# Altium schematic symbol library dsPIC33FJ64MC804-I_ML.SchLib: 1 symbol
Pins are listed as number, name and electrical type; pins without a type are passive.

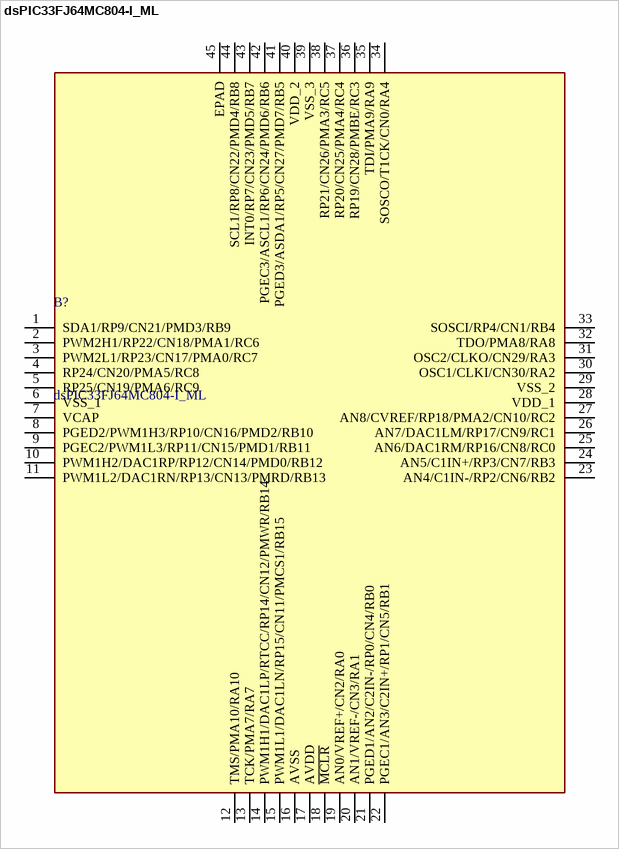
[diagram p0: symbol dsPIC33FJ64MC804-I_ML]

## dsPIC33FJ64MC804-I_ML
designator B?
MCU&DSP 64K Flash 16K RAM DMA QFN44; Manufacturer_Name: Microchip; Manufacturer_Part_Number: dsPIC33FJ64MC804-I/ML; Geometry.Height: 1mm; Mouser Part Number: 579-DSPIC364MC804IML; Mouser Price/Stock: https://www.mouser.co.uk/ProductDetail/Microchip-Technology/DSPIC33FJ64MC804-I-ML?qs=nMCt4TBfEwoppiYgos1DJw%3D%3D; Datasheet Link: http://ww1.microchip.com/downloads/en/DeviceDoc/70291G.pdf
footprint QFN65P800X800X100-45N-D
pins: 1 SDA1/RP9/CN21/PMD3/RB9, 2 PWM2H1/RP22/CN18/PMA1/RC6, 3 PWM2L1/RP23/CN17/PMA0/RC7, 4 RP24/CN20/PMA5/RC8, 5 RP25/CN19/PMA6/RC9, 6 VSS_1, 7 VCAP, 8 PGED2/PWM1H3/RP10/CN16/PMD2/RB10, 9 PGEC2/PWM1L3/RP11/CN15/PMD1/RB11, 10 PWM1H2/DAC1RP/RP12/CN14/PMD0/RB12, 11 PWM1L2/DAC1RN/RP13/CN13/PMRD/RB13, 12 TMS/PMA10/RA10, 13 TCK/PMA7/RA7, 14 PWM1H1/DAC1LP/RTCC/RP14/CN12/PMWR/RB14, 15 PWM1L1/DAC1LN/RP15/CN11/PMCS1/RB15, 16 AVSS, 17 AVDD, 18 ~{MCLR}, 19 AN0/VREF+/CN2/RA0, 20 AN1/VREF-/CN3/RA1, 21 PGED1/AN2/C2IN-/RP0/CN4/RB0, 22 PGEC1/AN3/C2IN+/RP1/CN5/RB1, 23 AN4/C1IN-/RP2/CN6/RB2, 24 AN5/C1IN+/RP3/CN7/RB3, 25 AN6/DAC1RM/RP16/CN8/RC0, 26 AN7/DAC1LM/RP17/CN9/RC1, 27 AN8/CVREF/RP18/PMA2/CN10/RC2, 28 VDD_1, 29 VSS_2, 30 OSC1/CLKI/CN30/RA2, 31 OSC2/CLKO/CN29/RA3, 32 TDO/PMA8/RA8, 33 SOSCI/RP4/CN1/RB4, 34 SOSCO/T1CK/CN0/RA4, 35 TDI/PMA9/RA9, 36 RP19/CN28/PMBE/RC3, 37 RP20/CN25/PMA4/RC4, 38 RP21/CN26/PMA3/RC5, 39 VSS_3, 40 VDD_2, 41 PGED3/ASDA1/RP5/CN27/PMD7/RB5, 42 PGEC3/ASCL1/RP6/CN24/PMD6/RB6, 43 INT0/RP7/CN23/PMD5/RB7, 44 SCL1/RP8/CN22/PMD4/RB8, 45 EPAD